# EAGLE library part HEADER_10 (library Jack-connectors)
10 pins headers
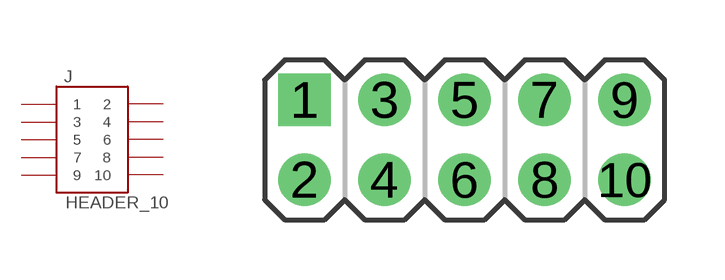
[diagram p2: symbol with the pads of HDR_10_2.0; footprint HDR_10_2.0]

Designator prefix J

## HEADER_10_2.0_STR (DESCRIPTION: 10 pin header, 2.0 mm pitch; PACK: HEADER_10_2.0_STR)  [HDR_10_2.0]
1  1  pas
2  2  pas
3  3  pas
4  4  pas
5  5  pas
6  6  pas
7  7  pas
8  8  pas
9  9  pas
10  10  pas

## Footprint HDR_10_2.0 (pad centres in mm)
drill 0.81 square: 1 -4,1
drill 0.81: 2 -4,-1; 3 -2,1; 4 -2,-1; 5 0,1; 6 0,-1; 7 2,1; 8 2,-1; 9 4,1; 10 4,-1